# Altium footprint library Audio-Power-amlifier.PCBLIB: 50 footprints (part 2 of 4)
Each footprint in its own frame and in the unit in brackets; x right, y up, seen from the top. Pads: shape width x height; smd on the part's side, far side on the other; paste and mask are expansions set on the pad; w line width, h text height; cw(c..) or ccw(c..) is an arc to the next point about the centre after c.
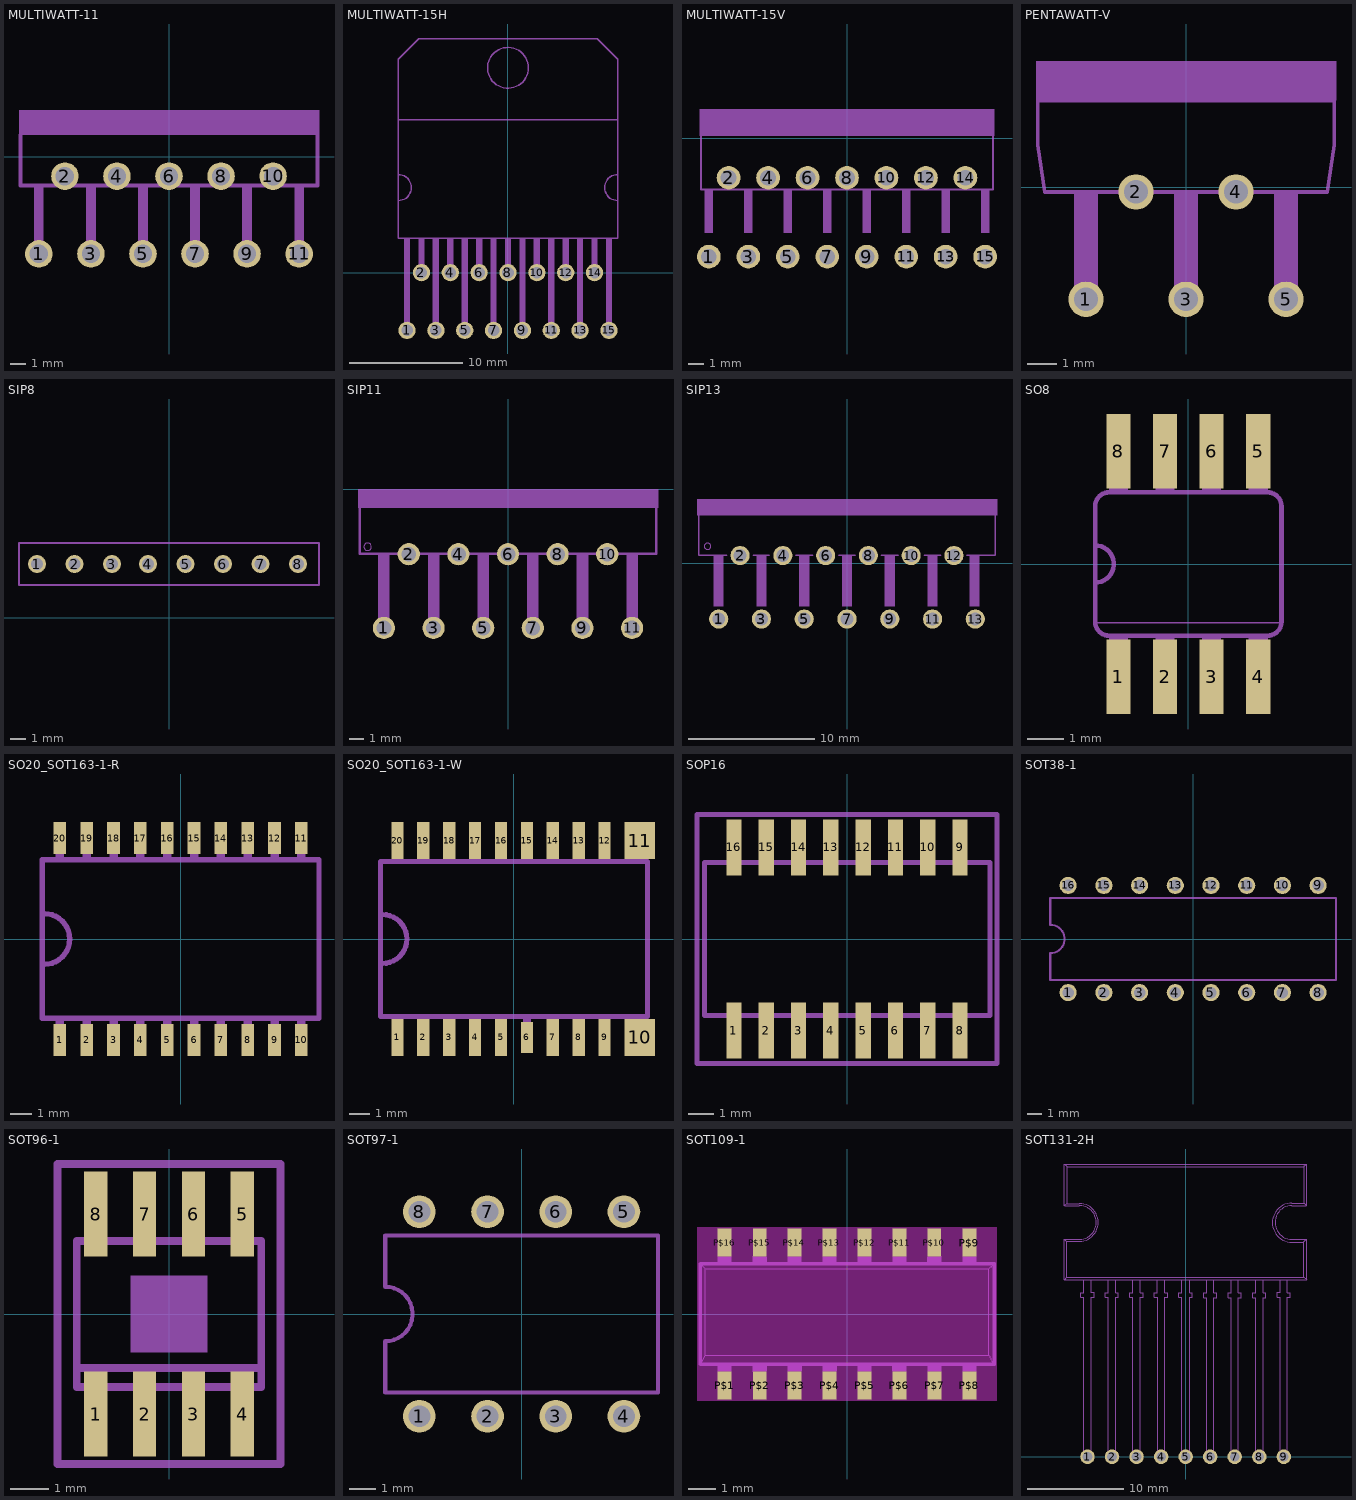
[diagram p1: the footprints below, top view; thin cyan lines are the x and y axes]

## MULTIWATT-11 [mil]
pads (11):
  round 70.86 / inner round 60 / far side round 70.86 hole 47.24: 1(-334.65,-250) 2(-267.72,-50) 3(-200.79,-250) 4(-133.86,-50) 5(-66.93,-250) 6(0,-50) 7(66.93,-250) 8(133.86,-50) 9(200.79,-250) 10(267.72,-50) 11(334.65,-250)
Mechanical 8:
  region: -346.46,-258.66 -346.46,-211.42 -322.83,-211.42 -322.83,-258.66
  region: -346.46,-215.35 -346.46,-77.56 -322.83,-77.56 -322.83,-215.35
  region: -212.6,-258.66 -212.6,-211.42 -188.98,-211.42 -188.98,-258.66
  region: -212.6,-215.35 -212.6,-77.56 -188.98,-77.56 -188.98,-215.35
  region: -78.74,-258.66 -78.74,-211.42 -55.12,-211.42 -55.12,-258.66
  region: -78.74,-215.35 -78.74,-77.56 -55.12,-77.56 -55.12,-215.35
  region: 55.12,-258.66 55.12,-211.42 78.74,-211.42 78.74,-258.66
  region: 55.12,-215.35 55.12,-77.56 78.74,-77.56 78.74,-215.35
  region: 188.98,-258.66 188.98,-211.42 212.6,-211.42 212.6,-258.66
  region: 188.98,-215.35 188.98,-77.56 212.6,-77.56 212.6,-215.35
  region: 322.83,-258.66 322.83,-211.42 346.46,-211.42 346.46,-258.66
  region: 322.83,-215.35 322.83,-77.56 346.46,-77.56 346.46,-215.35
  lines w10: -381.89,-73.62 381.89,-73.62
Mechanical 22:
  region: -385.83,56.3 -385.83,119.29 385.83,119.29 385.83,56.3
  lines w10: -381.89,56.3 -381.89,-73.62 -307.09,-73.62 ; -228.35,-73.62 -173.23,-73.62 ; -94.49,-73.62 -39.37,-73.62 ; 39.37,-73.62 94.49,-73.62 ; 173.23,-73.62 228.35,-73.62 ; 307.09,-73.62 381.89,-73.62 381.89,56.3

## MULTIWATT-15H [mil]
pads (15):
  round 60 hole 40: 1(-350,-200) 2(-300,0) 3(-250,-200) 4(-200,0) 5(-150,-200) 6(-100,0) 7(-50,-200) 8(0,0) 9(50,-200) 10(100,0) 11(150,-200) 12(200,0) 13(250,-200) 14(300,0) 15(350,-200)
Mechanical 22:
  circle w5: c0,710 r70.71
  region: -360,-200 -360,120 -340,120 -340,-200
  region: 340,-200 340,120 360,120 360,-200
  region: 240,-200 240,120 260,120 260,-200
  region: 140,-200 140,120 160,120 160,-200
  region: 40,-200 40,120 60,120 60,-200
  region: -60,-200 -60,120 -40,120 -40,-200
  region: -160,-200 -160,120 -140,120 -140,-200
  region: -260,-200 -260,120 -240,120 -240,-200
  region: -10,0 -10,120 10,120 10,0
  region: 290,0 290,120 310,120 310,0
  region: 190,0 190,120 210,120 210,0
  region: 90,0 90,120 110,120 110,0
  region: -110,0 -110,120 -90,120 -90,0
  region: -210,0 -210,120 -190,120 -190,0
  region: -310,0 -310,120 -290,120 -290,0
  lines w5: -380,250 ccw(c-380,295) -380,340 ; -380,250 -380,340 ; -380,250 -380,120 380,120 380,250 ; -380,340 -380,530 ; -380,530 380,530 ; -380,530 -380,740 -310,810 310,810 380,740 380,530 ; 380,250 cw(c380,295) 380,340 ; 380,250 380,340 ; 380,340 380,530

## MULTIWATT-15V [mil]
pads (15):
  round 60 hole 40: 1(-350,-300) 2(-300,-100) 3(-250,-300) 4(-200,-100) 5(-150,-300) 6(-100,-100) 7(-50,-300) 8(0,-100) 9(50,-300) 10(100,-100) 11(150,-300) 12(200,-100) 13(250,-300) 14(300,-100) 15(350,-300)
Mechanical 8:
  region: -360,-240 -360,-130 -340,-130 -340,-240
  region: -260,-240 -260,-130 -240,-130 -240,-240
  region: -160,-240 -160,-130 -140,-130 -140,-240
  region: -60,-240 -60,-130 -40,-130 -40,-240
  region: 40,-240 40,-130 60,-130 60,-240
  region: 140,-240 140,-130 160,-130 160,-240
  region: 240,-240 240,-130 260,-130 260,-240
  region: 340,-240 340,-130 360,-130 360,-240
  lines w6: -360,-130 360,-130
Mechanical 22:
  region: -373.03,6.89 -373.03,72.83 373.03,72.83 373.03,6.89
  lines w6: -370,10 -370,-130 -360,-130 ; 360,-130 370,-130 370,10

## PENTAWATT-V [mil]
pads (5):
  round 47.25 / inner round 60 / far side round 47.25 hole 31.5: 1(-133.86,-150) 2(-66.93,-6.3) 3(0,-150) 4(66.93,-6.3) 5(133.86,-150)
Mechanical 22:
  region: -200.79,116.14 -200.79,168.9 200.79,168.9 200.79,116.14
  region: -149.61,-150 -149.61,-6.3 -118.11,-6.3 -118.11,-150
  region: -15.75,-150 -15.75,-6.3 15.75,-6.3 15.75,-150
  region: 118.11,-150 118.11,-6.3 149.61,-6.3 149.61,-150
  lines w5: -198.29,56.25 -188.98,-6.25 ; -198.29,56.69 -198.29,116.14 198.29,116.14 198.29,56.69 ; -188.98,-6.3 188.98,-6.3 ; 188.98,-6.25 198.29,56.25

## SIP8 [mil]
pads (8):
  round 47.25 / inner round 60 / far side round 47.25 hole 31.5: 1(-346.46,141.73) 2(-248.03,141.73) 3(-149.61,141.73) 4(-55.12,141.73) 5(43.31,141.73) 6(141.73,141.73) 7(240.16,141.73) 8(338.58,141.73)
Mechanical 22:
  lines w5: -393.7,86.61 -393.7,196.85 393.7,196.85 393.7,86.61 -393.7,86.61

## SIP11 [mil]
pads (11):
  round 60 hole 40: 1(-335,-375) 2(-268,-176) 3(-201,-375) 4(-134,-176) 5(-67,-375) 6(0,-176) 7(67,-375) 8(134,-176) 9(201,-375) 10(268,-176) 11(335,-375)
Mechanical 8:
  region: 320,-380 320,-325 350,-325 350,-380
  region: 186,-380 186,-325 216,-325 216,-380
  region: 52,-380 52,-325 82,-325 82,-380
  region: -82,-380 -82,-325 -52,-325 -52,-380
  region: -216,-380 -216,-325 -186,-325 -186,-380
  region: -350,-380 -350,-325 -320,-325 -320,-380
  lines w6: -317,-175 -219,-175 ; -183,-175 -85,-175 ; -49,-175 49,-175 ; 85,-175 183,-175 ; 219,-175 317,-175
Mechanical 22:
  circle w2: c-379,-156 r10
  region: -405,-50 -405,0 405,0 405,-50
  region: -350,-325 -350,-175 -320,-175 -320,-325
  region: -216,-325 -216,-175 -186,-175 -186,-325
  region: -82,-325 -82,-175 -52,-175 -52,-325
  region: 52,-325 52,-175 82,-175 82,-325
  region: 186,-325 186,-175 216,-175 216,-325
  region: 320,-325 320,-175 350,-175 350,-325
  lines w6: -400,-50 -400,-175 -317,-175 ; -219,-175 -183,-175 ; -85,-175 -49,-175 ; 49,-175 85,-175 ; 183,-175 219,-175 ; 317,-175 400,-175 400,-50

## SIP13 [mil]
pads (13):
  round 60 hole 40: 1(-402,-175) 2(-335,24) 3(-268,-175) 4(-201,24) 5(-134,-175) 6(-67,24) 7(0,-175) 8(67,24) 9(134,-175) 10(201,24) 11(268,-175) 12(335,24) 13(402,-175)
Mechanical 22:
  circle w0: c-437,53 r10
  region: -470,150 -470,200 470,200 470,150
  region: -417,-135 -417,25 -387,25 -387,-135
  region: -283,-135 -283,25 -253,25 -253,-135
  region: -149,-135 -149,25 -119,25 -119,-135
  region: -15,-135 -15,25 15,25 15,-135
  region: 119,-135 119,25 149,25 149,-135
  region: 253,-135 253,25 283,25 283,-135
  region: 385,-135 385,25 415,25 415,-135
  lines w5: -465,150 -465,25 -377,25 ; -293,25 -243,25 ; -160,25 -108,25 ; -26,25 26,25 ; 108,25 161,25 ; 242,25 294,25 ; 376,25 465,25 465,150

## SO8 [mil]
pads (8):
  rect 26x80 smd: 1(-75,-121) 2(-25,-121) 3(25,-121) 4(75,-121) 5(75,121) 6(25,121) 7(-25,121) 8(-75,121)
Mechanical 8:
  region: 65,77 65,122 85,122 85,77
  region: -85,-122 -85,-77 -65,-77 -65,-122
  region: -35,-122 -35,-77 -15,-77 -15,-122
  region: 15,-121 15,-76 35,-76 35,-121
  region: 65,-122 65,-77 85,-77 85,-122
  region: 15,77 15,122 35,122 35,77
  region: -35,77 -35,122 -15,122 -15,77
  region: -85,77 -85,122 -65,122 -65,77
Mechanical 22:
  lines w2: -100,-63 100,-63
  lines w5: -100,-20 ccw(c-100,0) -100,20 ; -100,-62 ccw(c-85,-62) -85,-77 85,-77 ccw(c85,-62) 100,-62 100,62 ccw(c85,62) 85,77 -85,77 ccw(c-85,62) -100,62 -100,-62

## SO20_SOT163-1-R [mil]
pads (20):
  rect 23.62x59.06 smd: 1(-225,-188.19) 2(-175,-188.19) 3(-125,-188.19) 4(-75,-188.19) 5(-25,-188.19) 6(25,-188.19) 7(75,-188.19) 8(125,-188.19) 9(175,-188.19) 10(225,-188.19) 11(225,188.19) 12(175,188.19) 13(125,188.19) 14(75,188.19) 15(25,188.19) 16(-25,188.19) 17(-75,188.19) 18(-125,188.19) 19(-175,188.19) 20(-225,188.19)
Mechanical 8:
  region: -232.5,-197.5 -232.5,-152.5 -217.5,-152.5 -217.5,-197.5
  region: -182.5,-197.5 -182.5,-152.5 -167.5,-152.5 -167.5,-197.5
  region: -132.5,-197.5 -132.5,-152.5 -117.5,-152.5 -117.5,-197.5
  region: -82.5,-197.5 -82.5,-152.5 -67.5,-152.5 -67.5,-197.5
  region: -32.5,-197.5 -32.5,-152.5 -17.5,-152.5 -17.5,-197.5
  region: 17.5,-197.5 17.5,-152.5 32.5,-152.5 32.5,-197.5
  region: 67.5,-197.5 67.5,-152.5 82.5,-152.5 82.5,-197.5
  region: 117.5,-197.5 117.5,-152.5 132.5,-152.5 132.5,-197.5
  region: 167.5,-197.5 167.5,-152.5 182.5,-152.5 182.5,-197.5
  region: 217.5,-197.5 217.5,-152.5 232.5,-152.5 232.5,-197.5
  region: 217.5,152.5 217.5,197.5 232.5,197.5 232.5,152.5
  region: 167.5,152.5 167.5,197.5 182.5,197.5 182.5,152.5
  region: 117.5,152.5 117.5,197.5 132.5,197.5 132.5,152.5
  region: 67.5,152.5 67.5,197.5 82.5,197.5 82.5,152.5
  region: 17.5,152.5 17.5,197.5 32.5,197.5 32.5,152.5
  region: -32.5,152.5 -32.5,197.5 -17.5,197.5 -17.5,152.5
  region: -82.5,152.5 -82.5,197.5 -67.5,197.5 -67.5,152.5
  region: -132.5,152.5 -132.5,197.5 -117.5,197.5 -117.5,152.5
  region: -182.5,152.5 -182.5,197.5 -167.5,197.5 -167.5,152.5
  region: -232.5,152.5 -232.5,197.5 -217.5,197.5 -217.5,152.5
Mechanical 22:
  lines w10: -253.94,-47.24 ccw(c-253.94,0) -253.94,47.24 ; -257.87,-147.64 257.87,-147.64 257.87,147.64 -257.87,147.64 -257.87,-147.64

## SO20_SOT163-1-W [mil]
pads (20):
  rect 23.62x70.87 smd: 1(-225,-190.16) 2(-175,-190.16) 3(-125,-190.16) 4(-75,-190.16) 5(-25,-190.16) 7(75,-190.16) 8(125,-190.16) 9(175,-190.16) 12(175,190.16) 13(125,190.16) 14(75,190.16) 15(25,190.16) 16(-25,190.16) 17(-75,190.16) 18(-125,190.16) 19(-175,190.16) 20(-225,190.16)
  rect 23.62x59.06 smd: 6(25,-190.16)
  rect 59.06x70.87 smd: 10(242.72,-190.16) 11(242.72,190.16)
Mechanical 8:
  region: -232.5,-199.47 -232.5,-154.47 -217.5,-154.47 -217.5,-199.47
  region: -182.5,-199.47 -182.5,-154.47 -167.5,-154.47 -167.5,-199.47
  region: -132.5,-199.47 -132.5,-154.47 -117.5,-154.47 -117.5,-199.47
  region: -82.5,-199.47 -82.5,-154.47 -67.5,-154.47 -67.5,-199.47
  region: -32.5,-199.47 -32.5,-154.47 -17.5,-154.47 -17.5,-199.47
  region: 17.5,-199.47 17.5,-154.47 32.5,-154.47 32.5,-199.47
  region: 67.5,-199.47 67.5,-154.47 82.5,-154.47 82.5,-199.47
  region: 117.5,-199.47 117.5,-154.47 132.5,-154.47 132.5,-199.47
  region: 167.5,-199.47 167.5,-154.47 182.5,-154.47 182.5,-199.47
  region: 217.5,-199.47 217.5,-154.47 232.5,-154.47 232.5,-199.47
  region: 217.5,154.47 217.5,199.47 232.5,199.47 232.5,154.47
  region: 167.5,154.47 167.5,199.47 182.5,199.47 182.5,154.47
  region: 117.5,154.47 117.5,199.47 132.5,199.47 132.5,154.47
  region: 67.5,154.47 67.5,199.47 82.5,199.47 82.5,154.47
  region: 17.5,154.47 17.5,199.47 32.5,199.47 32.5,154.47
  region: -32.5,154.47 -32.5,199.47 -17.5,199.47 -17.5,154.47
  region: -82.5,154.47 -82.5,199.47 -67.5,199.47 -67.5,154.47
  region: -132.5,154.47 -132.5,199.47 -117.5,199.47 -117.5,154.47
  region: -182.5,154.47 -182.5,199.47 -167.5,199.47 -167.5,154.47
  region: -232.5,154.47 -232.5,199.47 -217.5,199.47 -217.5,154.47
Mechanical 22:
  lines w10: -253.94,-47.24 ccw(c-253.94,0) -253.94,47.24 ; -257.87,-149.61 257.87,-149.61 257.87,149.61 -257.87,149.61 -257.87,-149.61

## SOP16 [mil]
pads (16):
  rect 23.62x86.61 smd: 1(-175,-141.73) 2(-125,-141.73) 3(-75,-141.73) 4(-25,-141.73) 5(25,-141.73) 6(75,-141.73) 7(125,-141.73) 8(175,-141.73) 9(175,141.73) 10(125,141.73) 11(75,141.73) 12(25,141.73) 13(-25,141.73) 14(-75,141.73) 15(-125,141.73) 16(-175,141.73)
Mechanical 8:
  region: -184.84,-174.8 -184.84,-122.44 -165.16,-122.44 -165.16,-174.8
  region: -134.84,-174.8 -134.84,-122.44 -115.16,-122.44 -115.16,-174.8
  region: -84.84,-174.8 -84.84,-122.44 -65.16,-122.44 -65.16,-174.8
  region: -34.84,-174.8 -34.84,-122.44 -15.16,-122.44 -15.16,-174.8
  region: 15.16,-174.8 15.16,-122.44 34.84,-122.44 34.84,-174.8
  region: 65.16,-174.8 65.16,-122.44 84.84,-122.44 84.84,-174.8
  region: 115.16,-174.8 115.16,-122.44 134.84,-122.44 134.84,-174.8
  region: 165.16,-174.8 165.16,-122.44 184.84,-122.44 184.84,-174.8
  region: 165.16,122.44 165.16,174.8 184.84,174.8 184.84,122.44
  region: 115.16,122.44 115.16,174.8 134.84,174.8 134.84,122.44
  region: 65.16,122.44 65.16,174.8 84.84,174.8 84.84,122.44
  region: 15.16,122.44 15.16,174.8 34.84,174.8 34.84,122.44
  region: -34.84,122.44 -34.84,174.8 -15.16,174.8 -15.16,122.44
  region: -84.84,122.44 -84.84,174.8 -65.16,174.8 -65.16,122.44
  region: -134.84,122.44 -134.84,174.8 -115.16,174.8 -115.16,122.44
  region: -184.84,122.44 -184.84,174.8 -165.16,174.8 -165.16,122.44
  lines w8: -220.67,-118.5 -220.67,118.5 221.46,118.5 221.46,-118.5 -220.67,-118.5
Mechanical 30:
  lines w7.87: -232.28,-192.91 -232.28,192.91 232.28,192.91 232.28,-192.91 -232.28,-192.91

## SOT38-1 [mil]
pads (16):
  round 48 / inner round 60 / far side round 48 hole 32: 1(-350,-150) 2(-250,-150) 3(-150,-150) 4(-50,-150) 5(50,-150) 6(150,-150) 7(250,-150) 8(350,-150) 9(350,150) 10(250,150) 11(150,150) 12(50,150) 13(-50,150) 14(-150,150) 15(-250,150) 16(-350,150)
Mechanical 8:
  lines w6: -400,-115 400,-115 ; -400,115 400,115
Mechanical 22:
  lines w6: -400,-115 -400,-40 ccw(c-400,0) -400,40 -400,115 ; 400,-115 400,115

## SOT96-1 [mil]
pads (8):
  rect 23.62x86.61 smd: 1(-75,-102.36) 2(-25,-102.36) 3(25,-102.36) 4(75,-102.36) 5(75,102.36) 6(25,102.36) 7(-25,102.36) 8(-75,102.36)
Mechanical 8:
  region: -84.65,78.74 -84.65,122.05 -65.35,122.05 -65.35,78.74
  region: -34.65,78.74 -34.65,122.05 -15.35,122.05 -15.35,78.74
  region: 15.35,78.74 15.35,122.05 34.65,122.05 34.65,78.74
  region: 65.35,78.74 65.35,122.05 84.65,122.05 84.65,78.74
  region: 65.35,-122.05 65.35,-78.74 84.65,-78.74 84.65,-122.05
  region: 15.35,-122.05 15.35,-78.74 34.65,-78.74 34.65,-122.05
  region: -34.65,-122.05 -34.65,-78.74 -15.35,-78.74 -15.35,-122.05
  region: -84.65,-122.05 -84.65,-78.74 -65.35,-78.74 -65.35,-122.05
  lines w8: -94.49,-55.12 94.49,-55.12 ; -94.49,-55.12 -94.49,74.8 94.49,74.8 94.49,-55.12 ; -94.49,-55.12 -94.49,-74.8 94.49,-74.8 94.49,-55.12
Mechanical 26:
  region: -39.37,-39.37 -39.37,39.37 39.37,39.37 39.37,-39.37
Mechanical 30:
  lines w7.87: -114.17,-153.54 -114.17,153.54 114.17,153.54 114.17,-153.54 -114.17,-153.54

## SOT97-1 [mil]
pads (8):
  round 48 / inner round 60 / far side round 48 hole 32: 1(-150,-150) 2(-50,-150) 3(50,-150) 4(150,-150) 5(150,150) 6(50,150) 7(-50,150) 8(-150,150)
Mechanical 22:
  lines w6: -200,-115 200,-115 200,115 -200,115 -200,40 cw(c-200,0) -200,-40 -200,-115

## SOT109-1 [mil]
pads (16):
  rect 20x40 smd: P$1(-175.2,-101.97) P$2(-124.8,-101.97) P$3(-74.8,-101.97) P$4(-24.8,-101.97) P$5(25.2,-101.97) P$6(74.8,-101.97) P$7(125.2,-101.97) P$8(175.2,-101.97) P$9(175.2,101.97) P$10(124.8,101.97) P$11(75.2,101.97) P$12(25.2,101.97) P$13(-25.2,101.97) P$14(-75.2,101.97) P$15(-124.8,101.97) P$16(-175.2,101.97)
Top Layer keep-out:
  region: -214.57,-124.02 -214.57,124.02 214.57,124.02 214.57,-124.02
Mechanical 22:
  region: -185.04,74.8 -185.04,81.89 -165.35,81.89 -165.35,74.8
  region: -134.65,74.8 -134.65,81.89 -114.96,81.89 -114.96,74.8
  region: -85.04,74.8 -85.04,81.89 -65.35,81.89 -65.35,74.8
  region: -35.04,74.8 -35.04,81.89 -15.35,81.89 -15.35,74.8
  region: 15.35,74.8 15.35,81.89 35.04,81.89 35.04,74.8
  region: 65.35,74.8 65.35,81.89 85.04,81.89 85.04,74.8
  region: 114.96,74.8 114.96,81.89 134.65,81.89 134.65,74.8
  region: 165.35,74.8 165.35,81.89 184.65,81.89 184.65,74.8
  region: 184.65,74.8 184.65,81.89 185.04,81.89 185.04,74.8
  region: -185.04,-81.89 -185.04,-74.8 -165.35,-74.8 -165.35,-81.89
  region: -134.65,-81.89 -134.65,-74.8 -114.96,-74.8 -114.96,-81.89
  region: -84.65,-81.89 -84.65,-74.8 -64.96,-74.8 -64.96,-81.89
  region: -34.65,-81.89 -34.65,-74.8 -14.96,-74.8 -14.96,-81.89
  region: 15.35,-81.89 15.35,-74.8 35.04,-74.8 35.04,-81.89
  region: 64.96,-81.89 64.96,-74.8 84.65,-74.8 84.65,-81.89
  region: 115.35,-81.89 115.35,-74.8 135.04,-74.8 135.04,-81.89
  region: 165.35,-81.89 165.35,-74.8 185.04,-74.8 185.04,-81.89
  lines w0.39: -207.87,-69.69 -202.76,-59.06 ; -207.87,69.69 -202.76,64.57 ; 208.27,-70.08 202.76,-59.06 ; 208.27,69.69 202.76,64.57 ; -202.76,-59.06 202.76,-59.06 ; -202.76,-59.06 -202.76,64.57 ; -202.76,64.57 202.76,64.57 ; 202.76,-59.06 202.76,64.57
  lines w5: -210.24,72.05 -210.24,-72.05 210.63,-72.05 210.63,72.05 -209.84,72.05

## SOT131-2H [mm]
pads (9):
  round 1.5 / inner round 1.524 / far side round 1.5 hole 1: 1(-10.16,0) 2(-7.62,0) 3(-5.08,0) 4(-2.54,0) 5(0,0) 6(2.54,0) 7(5.08,0) 8(7.62,0) 9(10.16,0)
Mechanical 22:
  lines w0.127: -12.55,18.3 -12.55,22.5 ; -12.55,26 -12.55,30.3 ; -12.54,18.3 -12.5,18.3 ; -12.54,30.3 12.54,30.3 ; -12.5,22.45 -12.3,22.25 -12.3,18.6 ; -12.5,22.5 -11,22.5 ccw(c-11,24.25) -11,26 -12.5,26 ; -12.5,26.05 -12.25,26.25 -12.25,30 ; -12.5,30.25 -12.25,30 ; -12.3,22.3 -11,22.3 ccw(c-11,24.25) -11,26.2 -12.25,26.2 ; -10.541,0.254 -10.16,0 -9.779,0.254 ; -10.54,0.25 -10.54,16.5 -10.84,16.5 -10.84,17 -10.54,17 -10.54,18.3 ; -9.78,0.26 -9.78,16.51 -9.48,16.51 -9.48,17.01 -9.78,17.01 ; -9.78,17 -9.78,18.3 ; -8.001,0.254 -7.62,0 -7.239,0.254 ; -8,0.25 -8,16.5 -8.3,16.5 -8.3,17 -8,17 -8,18.3 ; -7.25,0.25 -7.25,16.5 -6.95,16.5 -6.95,17 -7.25,17 -7.25,18.3 ; -5.461,0.254 -5.08,0 -4.699,0.254 ; -5.46,0.25 -5.46,16.5 -5.76,16.5 -5.76,17 -5.46,17 -5.46,18.3 ; -4.7,0.25 -4.7,16.5 -4.4,16.5 -4.4,17 -4.7,17 -4.7,18.3 ; -2.94,18.3 -2.94,17 -3.24,17 -3.24,16.5 -2.94,16.5 -2.93,0.26 ; -2.921,0.254 -2.54,0 -2.159,0.254 ; -2.16,0.26 -2.16,16.5 -1.86,16.5 -1.86,17 -2.16,17 -2.16,18.3 ; -0.4,0.3 -0.4,16.5 -0.7,16.5 -0.7,17 -0.4,17 -0.4,18.3 ; -0.381,0.254 0,0 0.381,0.254 ; 0.4,0.3 0.4,16.5 0.7,16.5 0.7,17 0.4,17 0.4,18.3 ; 2.159,0.254 2.54,0 2.921,0.254 ; 2.16,0.26 2.16,16.46 1.86,16.46 1.86,16.96 2.16,16.96 2.16,18.26 ; 2.92,0.26 2.92,16.46 3.22,16.46 3.22,16.96 2.92,16.96 2.92,18.26 ; 4.699,0.254 5.08,0 5.461,0.254 ; 4.7,0.26 4.7,16.46 4.4,16.46 4.4,16.96 4.7,16.96 4.7,18.26 ; 5.46,0.26 5.46,16.46 5.76,16.46 5.76,16.96 5.46,16.96 5.46,18.26 ; 7.239,0.254 7.62,0 8.001,0.254 ; 7.24,0.25 7.24,16.45 ; 7.24,16.46 6.94,16.46 6.94,16.96 7.24,16.96 7.24,18.26 ; 8.01,0.26 8.01,16.46 8.31,16.46 8.31,16.96 8.01,16.96 8.01,18.26 ; 9.779,0.254 10.16,0 10.541,0.254 ; 9.78,0.26 9.78,16.51 9.48,16.51 9.48,17.01 9.78,17.01 9.78,18.31 ; 10.54,0.25 10.54,16.5 10.84,16.5 10.84,17 10.54,17 10.54,18.3 ; 12.25,30 -12.25,30 ; 12.3,30.1 12.3,26.25 ; 12.35,30.1 12.55,30.25 ; 12.5,22.5 11,22.5 cw(c11,24.25) 11,26 12.5,26 ; 12.5,26.05 12.3,26.25 ; 12.54,18.3 10.54,18.3 ; 12.55,18.3 12.55,22.5 12.45,22.45 12.25,22.25 12.25,22.2 ; 12.55,18.35 12.25,18.6 ; 12.55,26 12.55,30.25 ; 12.55,30.3 12.55,30.25 ; -12.5,18.3 -10.54,18.3 ; -12.5,18.3 -12.3,18.6 ; -12.3,18.6 12.25,18.6 ; -10.54,18.3 -9.78,18.3 ; -9.78,18.3 -8,18.3 ; -8,18.3 -7.25,18.3 ; -7.25,18.3 10.54,18.3 ; 12.25,18.6 12.25,22.2 ; 12.25,22.2 11,22.2 cw(c11,24.225) 11,26.25 12.3,26.25